# Altium schematic symbol library 47uH.SchLib: 1 symbol
Pins are listed as number, name and electrical type; pins without a type are passive.

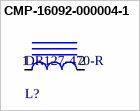
[diagram p0: symbol CMP-16092-000004-1]

## CMP-16092-000004-1
designator L?, comment DR127-470-R
FIXED IND 47UH 2.95A 71.9 MOHM; Max DC Current: 5.28A; Self Resonant Frequency: 100kHz; Inductance Tolerance: 20%; DC Resistance (DCR): 71.9mR; Shielding: Shielded; Core Material: Ferrite; Weight: 0.208oz; Composition: Wirewound; Saturation Current: 5.28A; REACH SVHC: No SVHC; Width: 0.492inch; Depth: 12.5mm; Package Quantity: 350; Height - Seated (Max): 0.315inch; Mount: Surface Mount; RMS Current (Irms): 2.95A; Min Operating Temperature: -40°C; Packaging: Tape and Reel; Number of Pins: 2; Inductance: 47uH; Height: 8mm; Max Operating Temperature: 125°C; Radiation Hardening: No; Termination: SMD/SMT; Case/Package: Nonstandard; Tolerance: 20%; Length: 12.5mm; Lead Free: Lead Free; Current Rating: 2.95A; Test Frequency: 100kHz; Military Standard: Not
footprint FP-DR127-MFG
pins: 1, 2